# Altium footprint library PcbLib1.PcbLib: 14 footprints
Each footprint in its own frame and in the unit in brackets; x right, y up, seen from the top. Pads: shape width x height; smd on the part's side, far side on the other; paste and mask are expansions set on the pad; w line width, h text height; cw(c..) or ccw(c..) is an arc to the next point about the centre after c.
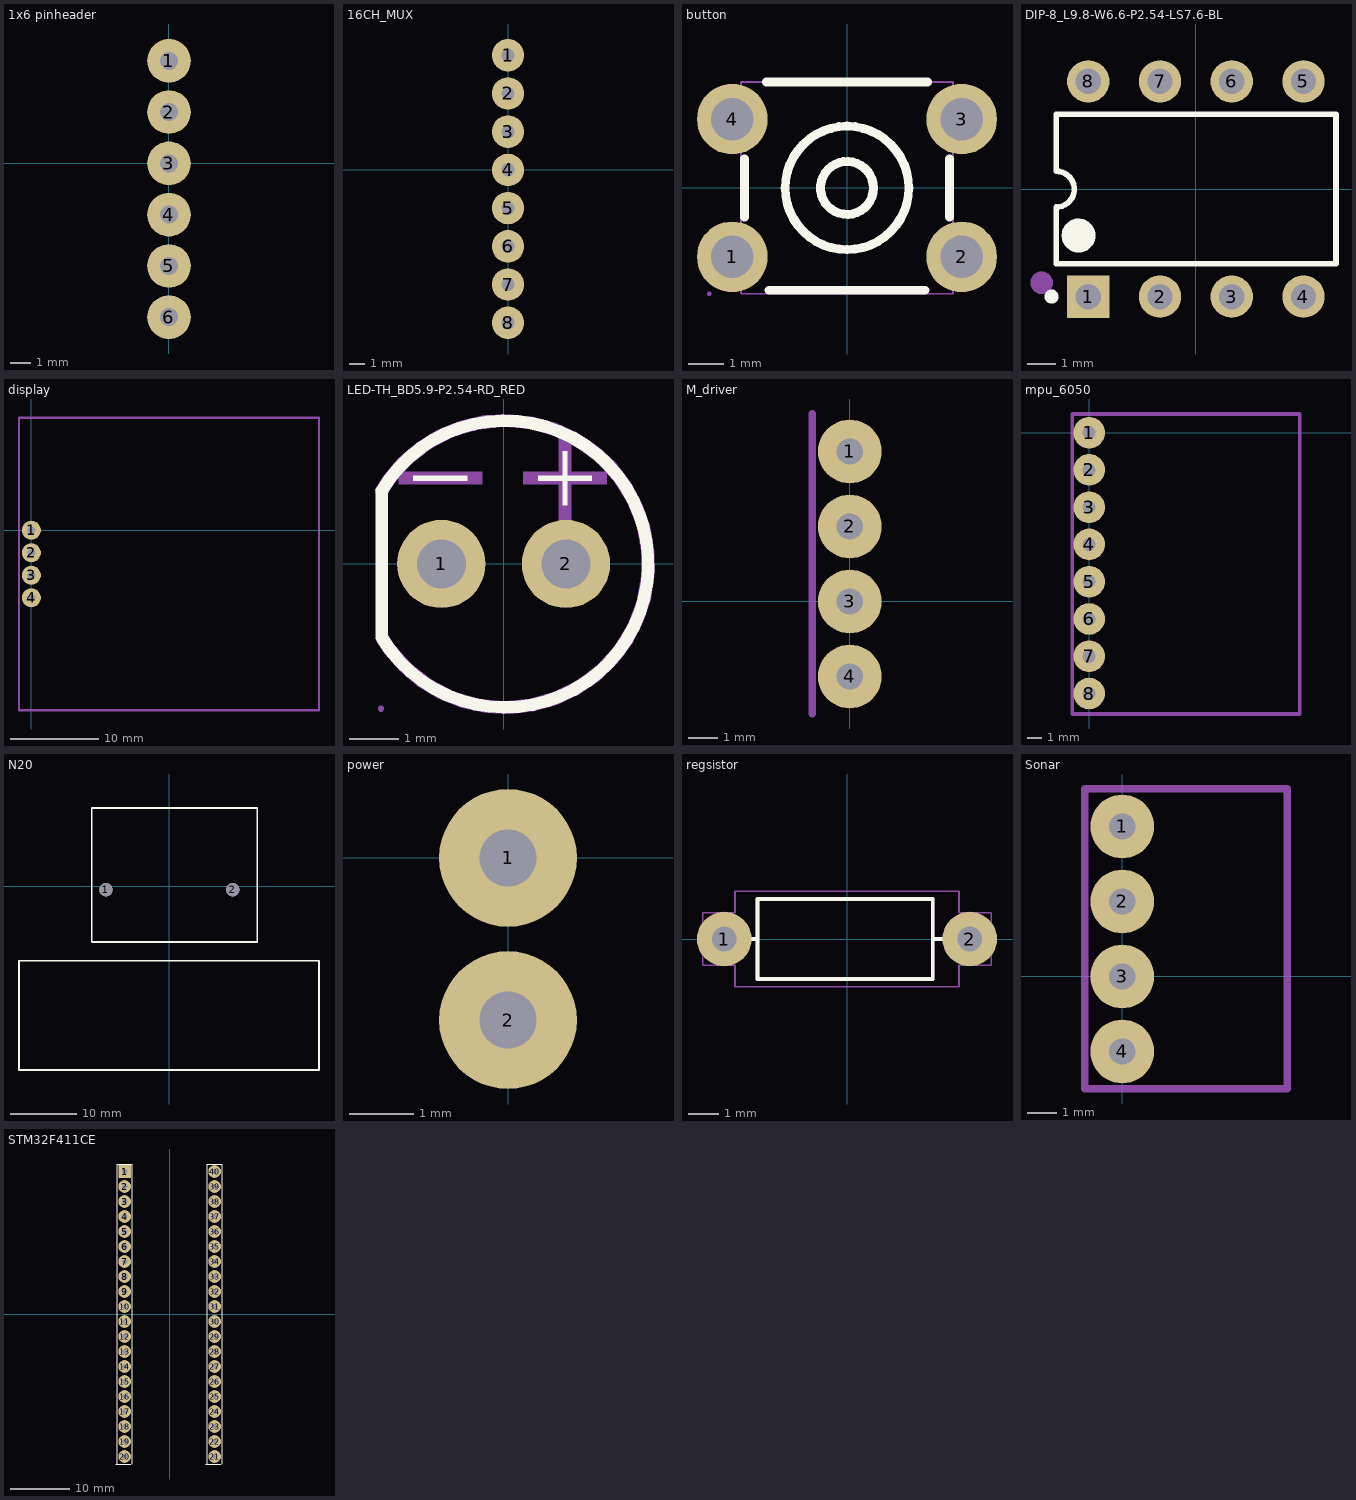
[diagram p0: the footprints below, top view; thin cyan lines are the x and y axes]

## 1x6 pinheader [mil]
pads (6):
  round 85 hole 35: 1(0,200) 2(0,100) 3(0,0) 4(0,-100) 5(0,-200) 6(0,-300)

## 16CH_MUX [mil]
pads (8):
  round 85 hole 35: 1(0,300) 2(0,200) 3(0,100) 4(0,0) 5(0,-100) 6(0,-200) 7(0,-300) 8(0,-400)

## button [mm]
pads (4):
  round 2 hole 1.2: 1(-3.25,-1.95) 2(3.25,-1.95) 3(3.25,1.95) 4(-3.25,1.95)
Top Overlay:
  circle w0.254: c0,0 r1.75
  circle w0.254: c0,0 r0.749
  lines w0.254: -2.9,-0.82 -2.9,0.82 ; -2.275,3.001 2.275,3.001 ; -2.203,-2.898 2.203,-2.898 ; 2.9,-0.82 2.9,0.82
Mechanical 15:
  region: 3.45,-1.6 3.45,-2.3 3.05,-2.3 3.05,-1.6
  region: 3.45,2.3 3.45,1.6 3.05,1.6 3.05,2.3
  region: -3.05,2.3 -3.05,1.6 -3.45,1.6 -3.45,2.3
  region: -3.05,-1.6 -3.05,-2.3 -3.45,-2.3 -3.45,-1.6
  region: 2.94,-1.6 3.9,-1.6 3.9,-2.3 2.94,-2.3
  region: 2.94,2.3 3.9,2.3 3.9,1.6 2.94,1.6
  region: -2.94,1.6 -3.9,1.6 -3.9,2.3 -2.94,2.3
  region: -2.94,-2.3 -3.9,-2.3 -3.9,-1.6 -2.94,-1.6
  region: -3.84,-3 -3.84,-3.025 -3.875,-3.06 -3.925,-3.06 -3.96,-3.025 -3.96,-3 -3.96,-2.975 -3.925,-2.94 -3.875,-2.94 -3.84,-2.975 -3.84,-3
  lines w0.051: -3,-3 -3,3 3,3 3,-3 -3,-3

## DIP-8_L9.8-W6.6-P2.54-LS7.6-BL [mm]
pads (8):
  rect 1.5x1.5 hole 0.9 paste-2539.97 mask+0.051: 1(-3.81,-3.81)
  round 1.5 hole 0.9 paste-2539.97 mask+0.051: 2(-1.27,-3.81) 3(1.27,-3.81) 4(3.81,-3.81) 5(3.81,3.81) 6(1.27,3.81) 7(-1.27,3.81) 8(-3.81,3.81)
Top Overlay:
  lines w0.2: -4.94,0.63 cw(c-4.94,-0.005) -4.94,-0.64 -4.94,-0.635 -4.94,-2.649 4.961,-2.649 4.961,2.649 -4.94,2.649 -4.94,0.635 -4.94,0.64
  lines w0.25: -5.235,-3.81 ccw(c-5.11,-3.809) -5.235,-3.807
  lines w0.6: -4.45,-1.651 ccw(c-4.15,-1.648) -4.45,-1.646
Mechanical 15:
  circle w0.4: c-5.46,-3.32 r0.2

## display [mil]
pads (4):
  round 85 hole 35: 1(0,0) 2(0,-100) 3(0,-200) 4(0,-300)
Mechanical 1:
  lines w10: -55,-800 1278,-800 1278,500 -55,500 -55,-800

## LED-TH_BD5.9-P2.54-RD_RED [mm]
pads (2):
  round 1.8 hole 1 paste-2539.97 mask+0.05: 1(-1.27,0) 2(1.27,0)
Top Overlay:
  region: -1.84,1.8 -1.84,1.7 -0.74,1.7 -0.74,1.8
  region: 1.2,1.2 1.3,1.2 1.3,2.3 1.2,2.3
  region: 0.7,1.8 0.7,1.7 1.8,1.7 1.8,1.8
  lines w0.254: -2.484,-1.497 -2.484,1.487 ccw(c-2.491,1.487) -2.486,1.491 cw(c0.025,-0.001) -2.475,-1.512
Mechanical 6:
  region: -2.366,-1.447 -2.222,-1.662 -1.876,-2.049 -1.465,-2.365 -1.003,-2.6 -0.505,-2.745 0.011,-2.795 0.528,-2.75 1.027,-2.61 1.492,-2.38 1.906,-2.068 2.255,-1.684 2.528,-1.243 2.714,-0.76 2.808,-0.25 2.806,0.269 2.708,0.778 2.518,1.261 2.242,1.7 1.89,2.08 1.473,2.389 1.007,2.615 0.506,2.751 -0.01,2.793 -0.526,2.738 -1.023,2.589 -1.483,2.351 -1.892,2.032 -2.235,1.643 -2.377,1.426 -2.404,1.381 -2.506,1.355 -2.597,1.409 -2.623,1.511 -2.596,1.556 -2.469,1.769 -2.149,2.15 -1.773,2.473 -1.348,2.732 -0.888,2.918 -0.403,3.027 0.093,3.057 0.587,3.005 1.066,2.875 1.518,2.668 1.93,2.391 2.293,2.051 2.595,1.657 2.829,1.219 2.99,0.749 3.072,0.259 3.074,-0.238 2.996,-0.728 2.839,-1.2 2.608,-1.639 2.308,-2.036 1.949,-2.379 1.538,-2.659 1.088,-2.869 0.61,-3.003 0.116,-3.058 -0.38,-3.033 -0.865,-2.927 -1.327,-2.744 -1.753,-2.489 -2.133,-2.169 -2.455,-1.791 -2.584,-1.578 -2.611,-1.533 -2.586,-1.431 -2.496,-1.377 -2.394,-1.402 -2.366,-1.447
  region: 0.4,1.875 2.1,1.875 2.1,1.625 0.4,1.625
  region: -2.14,1.875 -0.44,1.875 -0.44,1.625 -2.14,1.625
  region: 1.126,0.88 1.126,2.58 1.376,2.58 1.376,0.88
Mechanical 15:
  region: 1.02,0.2 1.52,0.2 1.52,-0.2 1.02,-0.2
  region: -1.52,0.2 -1.02,0.2 -1.02,-0.2 -1.52,-0.2
  region: -2.44,-2.95 -2.44,-2.975 -2.475,-3.01 -2.525,-3.01 -2.56,-2.975 -2.56,-2.95 -2.56,-2.925 -2.525,-2.89 -2.475,-2.89 -2.44,-2.925 -2.44,-2.95
  lines w0.051: -2.5,-1.5 -1.878,-2.122 ccw(c0.177,-0.005) 0,-2.95 0.05,-2.95 ccw(c0,0) 2.95,0 ccw(c0,0) 0.05,2.95 0,2.95 ccw(c0.177,0.005) -1.878,2.122 -2.5,1.5 -2.5,-1.5

## M_driver [mil]
pads (4):
  round 85 hole 35: 1(0,200) 2(0,100) 3(0,0) 4(0,-100)
Mechanical 1:
  lines w10: -50,-150 -50,250
3D body "DS1021-1x4S61.stp": height 338.58, standoff -118.11, extent -49.99,-150.01 50.01,249.99

## mpu_6050 [mil]
pads (8):
  round 85 hole 35: 1(0,0) 2(0,-100) 3(0,-200) 4(0,-300) 5(0,-400) 6(0,-500) 7(0,-600) 8(0,-700)
Mechanical 1:
  lines w10: -45,-755 565,-755 565,50 -45,50 -45,-755

## N20 [mil]
pads (2):
  round 79 hole 79: 1(-372,-22) 2(376,-22)
Top Overlay:
  lines w5: 525,-2.83 525,0
  lines w10: -885,-1085 885,-1085 885,-440 -885,-440 -885,-1085 ; -455,-330 520,-330 520,460 -455,460 -455,-330

## PCBComponent_1 [mil]
via -465,201.43 diameter 60 hole 60
via 440.51,201.43 diameter 60 hole 60
via -465,15 diameter 60 hole 60
via 440.51,15 diameter 60 hole 60
via -465,-171.43 diameter 60 hole 60
via 440.51,-171.43 diameter 60 hole 60

## power [mil]
pads (2):
  round 85 hole 35: 1(0,0) 2(0,-100)

## regsistor [mil]
height 102.36
pads (2):
  round 70 hole 31.5: 1(-157.48,0) 2(157.48,0)
Top Overlay:
  lines w5: -161.46,0 -115,0 ; 157.48,0 110,0 ; 110,0 110,25 110,51.18 -115,51.18 -115,18.86 -115,-51.18 110,-51.18 110,0
Mechanical 1:
  lines w5: 110,0 157.48,0
Mechanical 13:
  lines w5: -133.86,0 -115,0 -133.86,0 ; -115,-51.18 110,-51.18 110,23.86 110,51.18 -115,51.18 -115,18.86 -115,-51.18
Mechanical 15:
  lines w1.97: -185,-33.46 -185,33.46 -143.7,33.46 -143.7,61.02 143.7,61.02 143.7,33.46 185,33.46 185,-33.46 143.7,-33.46 143.7,-61.02 -143.7,-61.02 -143.7,-33.46 -185,-33.46
3D body: height 10, standoff 0, extent -185,-55 185,60

## Sonar [mil]
pads (4):
  round 85 hole 35: 1(0,200) 2(0,100) 3(0,0) 4(0,-100)
Mechanical 1:
  lines w10: -50,-150 -50,250 220,250 220,-150 -50,-150
3D body "DS1021-1x4S61.stp": height 338.58, standoff -118.11, extent -49.99,-150.01 50.01,249.99

## STM32F411CE [mil]
pads (40):
  rect 85x85 hole 35.43 mask+4: 1(-300,950)
  round 85 hole 35.43 mask+4: 2(-300,850) 3(-300,750) 4(-300,650) 5(-300,550) 6(-300,450) 7(-300,350) 8(-300,250) 9(-300,150) 10(-300,50) 11(-300,-50) 12(-300,-150) 13(-300,-250) 14(-300,-350) 15(-300,-450) 16(-300,-550) 17(-300,-650) 18(-300,-750) 19(-300,-850) 20(-300,-950) 21(300,-950) 22(300,-850) 23(300,-750) 24(300,-650) 25(300,-550) 26(300,-450) 27(300,-350) 28(300,-250) 29(300,-150) 30(300,-50) 31(300,50) 32(300,150) 33(300,250) 34(300,350) 35(300,450) 36(300,550) 37(300,650) 38(300,750) 39(300,850) 40(300,950)
Top Overlay:
  lines w7.87: -358.38,-1000 -258.38,-1000 ; -350,-1000 -350,1000 -250,1000 -250,925 -250,-1000 ; 241.62,-1000 341.62,-1000 ; 250,-1000 250,-925 250,1000 350,1000 350,-1000